# Altium footprint library dip.PcbLib: 12 footprints
Each footprint in its own frame and in the unit in brackets; x right, y up, seen from the top. Pads: shape width x height; smd on the part's side, far side on the other; paste and mask are expansions set on the pad; w line width, h text height; cw(c..) or ccw(c..) is an arc to the next point about the centre after c.
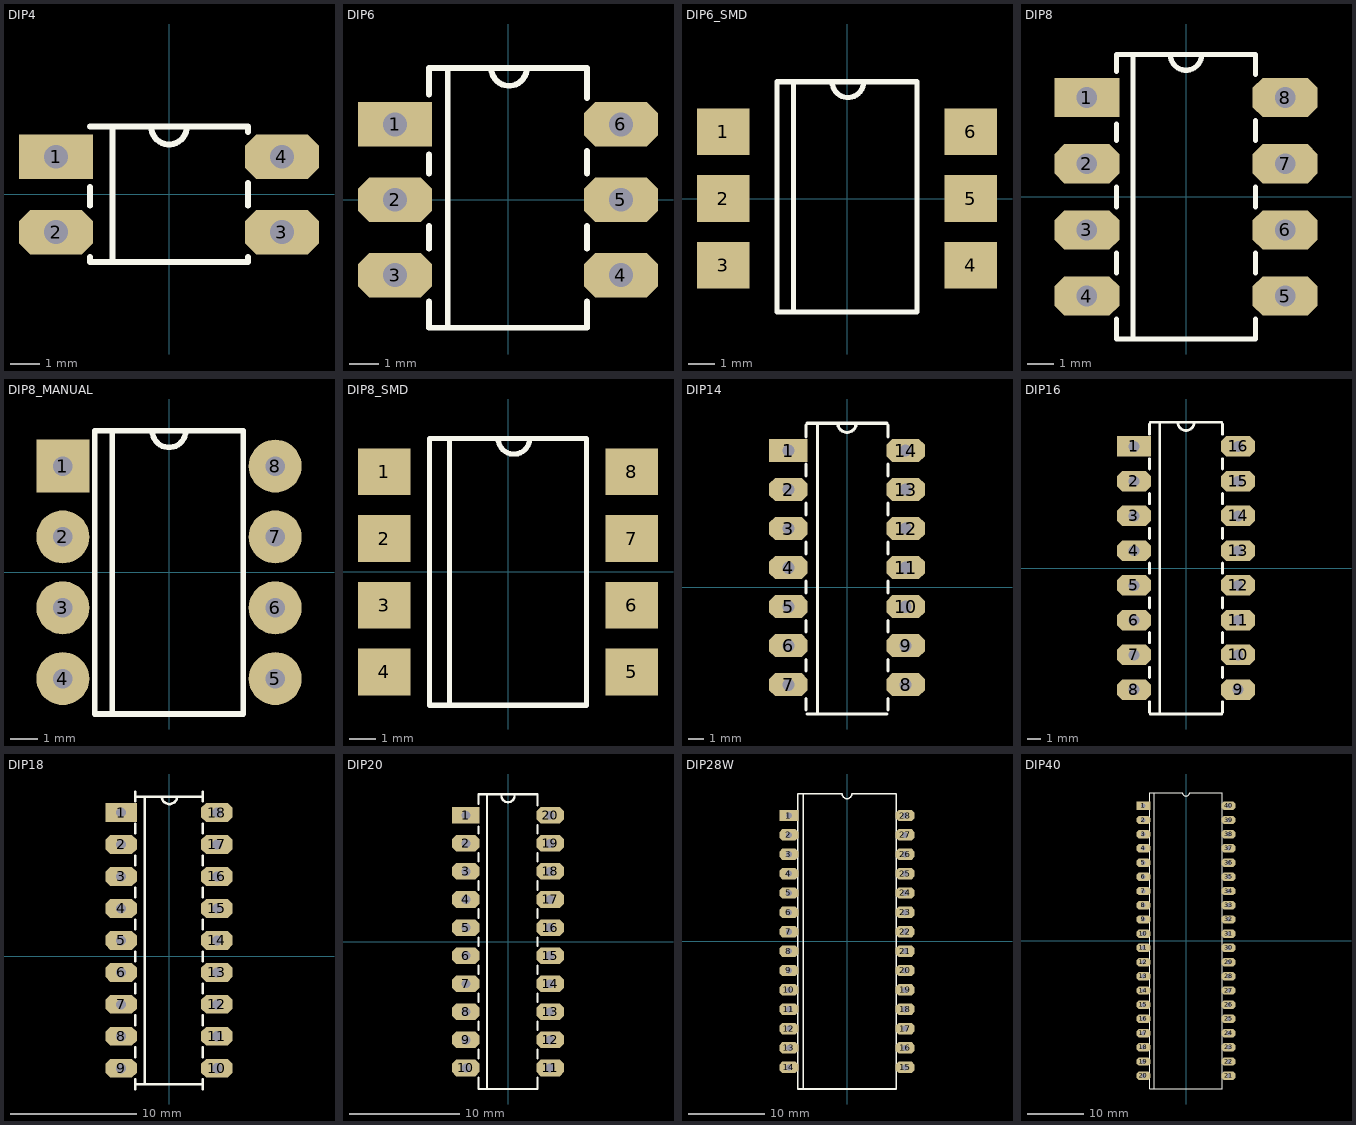
[diagram p0: the footprints below, top view; thin cyan lines are the x and y axes]

## DIP4 [mm]
height 4.5
pads (4):
  rect 2.5x1.5 hole 0.8: 1(-3.81,1.27)
  oct 2.5x1.5 hole 0.8: 2(-3.81,-1.27) 3(3.81,-1.27) 4(3.81,1.27)
Top Overlay:
  lines w0.2: -2.667,-2.108 -2.667,-2.286 2.667,-2.286 2.667,-2.108 ; -2.667,-0.381 -2.667,0.254 ; -2.667,2.286 2.667,2.286 2.667,2.108 ; -1.91,-2.286 -1.91,2.286 ; -0.6,2.286 ccw(c0,2.286) 0.6,2.286 ; 2.667,-0.381 2.667,0.381

## DIP6 [mm]
height 4.5
pads (6):
  rect 2.5x1.5 hole 0.8: 1(-3.81,2.54)
  oct 2.5x1.5 hole 0.8: 2(-3.81,0) 3(-3.81,-2.54) 4(3.81,-2.54) 5(3.81,0) 6(3.81,2.54)
Top Overlay:
  lines w0.2: -2.667,-3.429 -2.667,-4.318 2.667,-4.318 2.667,-3.429 ; -2.667,-1.651 -2.667,-0.889 ; -2.667,0.889 -2.667,1.524 ; -2.667,3.556 -2.667,4.445 2.667,4.445 2.667,3.429 ; -2.032,-4.318 -2.032,4.445 ; -0.565,4.445 ccw(c0.035,4.445) 0.635,4.445 ; 2.667,-1.651 2.667,-0.889 ; 2.667,0.889 2.667,1.651
3D body: height 5.3, standoff -2.49, extent -3.94,-4.355 3.94,4.445

## DIP6_SMD [mm]
height 4.5
pads (6):
  rect 2x1.78 smd: 1(-4.708,2.54) 2(-4.708,0) 3(-4.708,-2.54) 4(4.708,-2.54) 5(4.708,0) 6(4.708,2.54)
Top Overlay:
  lines w0.2: -2.032,-4.318 -2.032,4.445 ; -0.565,4.445 ccw(c0.035,4.445) 0.635,4.445 ; -2.667,-4.318 -2.667,4.445 2.667,4.445 2.667,-4.318 -2.667,-4.318
3D body: height 5.03, standoff -0.09, extent -4.952,-4.445 4.952,4.445

## DIP8 [mm]
height 4.5
pads (8):
  rect 2.5x1.5 hole 0.8: 1(-3.81,3.81)
  oct 2.5x1.5 hole 0.8: 2(-3.81,1.27) 3(-3.81,-1.27) 4(-3.81,-3.81) 5(3.81,-3.81) 6(3.81,-1.27) 7(3.81,1.27) 8(3.81,3.81)
Top Overlay:
  lines w0.2: -2.667,-4.699 -2.667,-5.461 2.667,-5.461 2.667,-4.699 ; -2.667,-2.921 -2.667,-2.159 ; -2.667,-0.381 -2.667,0.381 ; -2.667,2.159 -2.667,2.794 ; -2.667,4.826 -2.667,5.461 2.667,5.461 2.667,4.699 ; -2.032,-5.461 -2.032,5.461 ; -0.6,5.461 ccw(c0,5.461) 0.6,5.461 ; 2.667,-2.921 2.667,-2.159 ; 2.667,-0.381 2.667,0.381 ; 2.667,2.159 2.667,2.921
3D body: height 5.28, standoff -2.29, extent -3.935,-5.46 3.935,5.46

## DIP8_MANUAL [mm]
pads (8):
  rect 1.9x1.9 hole 0.7: 1(-3.81,3.81)
  round 1.9 hole 0.7: 2(-3.81,1.27) 3(-3.81,-1.27) 4(-3.81,-3.81) 5(3.81,-3.81) 6(3.81,-1.27) 7(3.81,1.27) 8(3.81,3.81)
Top Overlay:
  lines w0.2: -2.032,-5.08 -2.032,5.08 ; -0.6,5.08 ccw(c0,5.08) 0.6,5.08 ; -2.667,-5.08 -2.667,5.08 2.667,5.08 2.667,-5.08 -2.667,-5.08
3D body: height 5.28, standoff -2.29, extent -3.935,-5.46 3.935,5.46

## DIP8_SMD [mm]
pads (8):
  rect 2x1.78 smd: 1(-4.708,3.81) 2(-4.708,1.27) 3(-4.708,-1.27) 4(-4.708,-3.81) 5(4.708,-3.81) 6(4.708,-1.27) 7(4.708,1.27) 8(4.708,3.81)
Top Overlay:
  lines w0.2: -2.222,-5.08 -2.222,5.08 ; -0.374,5.08 ccw(c0.226,5.08) 0.826,5.08 ; -2.984,-5.08 -2.984,5.08 2.984,5.08 2.984,-5.08 -2.984,-5.08
3D body: height 5.08, standoff 0, extent -5.15,-4.955 5.15,4.955

## DIP14 [mm]
pads (14):
  rect 2.5x1.5 hole 0.8: 1(-3.81,8.89)
  oct 2.5x1.5 hole 0.8: 2(-3.81,6.35) 3(-3.81,3.81) 4(-3.81,1.27) 5(-3.81,-1.27) 6(-3.81,-3.81) 7(-3.81,-6.35) 8(3.81,-6.35) 9(3.81,-3.81) 10(3.81,-1.27) 11(3.81,1.27) 12(3.81,3.81) 13(3.81,6.35) 14(3.81,8.89)
Top Overlay:
  lines w0.2: -2.667,-8.001 -2.667,-7.239 ; -2.667,-5.461 -2.667,-4.699 ; -2.667,-2.921 -2.667,-2.159 ; -2.667,-0.381 -2.667,0.381 ; -2.667,2.159 -2.667,2.921 ; -2.667,4.699 -2.667,5.461 ; -2.667,7.239 -2.667,8.001 ; -2.667,9.779 -2.667,10.541 ; -2.61,-8.255 2.61,-8.255 ; -2.61,10.665 2.61,10.665 ; -1.91,-8.255 -1.91,10.665 ; -0.6,10.665 ccw(c0,10.665) 0.6,10.665 ; 2.667,-8.001 2.667,-7.239 ; 2.667,-5.461 2.667,-4.699 ; 2.667,-2.921 2.667,-2.159 ; 2.667,-0.381 2.667,0.381 ; 2.667,2.159 2.667,2.921 ; 2.667,4.699 2.667,5.461 ; 2.667,7.239 2.667,8.001 ; 2.667,9.779 2.667,10.541
3D body: height 5.08, standoff -2.49, extent -3.81,-8.48 4.06,11.02

## DIP16 [mm]
pads (16):
  rect 2.5x1.5 hole 0.8: 1(-3.81,8.89)
  oct 2.5x1.5 hole 0.8: 2(-3.81,6.35) 3(-3.81,3.81) 4(-3.81,1.27) 5(-3.81,-1.27) 6(-3.81,-3.81) 7(-3.81,-6.35) 8(-3.81,-8.89) 9(3.81,-8.89) 10(3.81,-6.35) 11(3.81,-3.81) 12(3.81,-1.27) 13(3.81,1.27) 14(3.81,3.81) 15(3.81,6.35) 16(3.81,8.89)
Top Overlay:
  lines w0.2: -2.667,-10.541 -2.667,-9.779 ; -2.667,-8.001 -2.667,-7.239 ; -2.667,-5.461 -2.667,-4.699 ; -2.667,-2.921 -2.667,-2.159 ; -2.667,-0.381 -2.667,0.381 ; -2.667,2.159 -2.667,2.921 ; -2.667,4.699 -2.667,5.461 ; -2.667,7.239 -2.667,8.001 ; -2.667,9.779 -2.667,10.541 ; -2.61,-10.665 2.61,-10.665 ; -2.61,10.665 2.61,10.665 ; -1.91,-10.665 -1.91,10.665 ; -0.6,10.665 ccw(c0,10.665) 0.6,10.665 ; 2.667,-10.541 2.667,-9.779 ; 2.667,-8.001 2.667,-7.239 ; 2.667,-5.461 2.667,-4.699 ; 2.667,-2.921 2.667,-2.159 ; 2.667,-0.381 2.667,0.381 ; 2.667,2.159 2.667,2.921 ; 2.667,4.699 2.667,5.461 ; 2.667,7.239 2.667,8.001 ; 2.667,9.779 2.667,10.541
3D body: height 5.28, standoff -2.29, extent -3.937,-10.033 3.933,9.967

## DIP18 [mm]
pads (18):
  rect 2.5x1.5 hole 0.8: 1(-3.81,11.43)
  oct 2.5x1.5 hole 0.8: 2(-3.81,8.89) 3(-3.81,6.35) 4(-3.81,3.81) 5(-3.81,1.27) 6(-3.81,-1.27) 7(-3.81,-3.81) 8(-3.81,-6.35) 9(-3.81,-8.89) 10(3.81,-8.89) 11(3.81,-6.35) 12(3.81,-3.81) 13(3.81,-1.27) 14(3.81,1.27) 15(3.81,3.81) 16(3.81,6.35) 17(3.81,8.89) 18(3.81,11.43)
Top Overlay:
  lines w0.2: -2.667,-10.541 -2.667,-9.779 ; -2.667,-8.001 -2.667,-7.239 ; -2.667,-5.461 -2.667,-4.699 ; -2.667,-2.921 -2.667,-2.159 ; -2.667,-0.381 -2.667,0.381 ; -2.667,2.159 -2.667,2.921 ; -2.667,4.699 -2.667,5.461 ; -2.667,7.239 -2.667,8.001 ; -2.667,9.779 -2.667,10.541 ; -2.667,12.319 -2.667,13.081 ; -2.61,-10.16 2.61,-10.16 ; -2.61,12.7 2.61,12.7 ; -1.91,-10.16 -1.91,12.7 ; -0.565,12.7 ccw(c0.035,12.7) 0.635,12.7 ; 2.667,-10.541 2.667,-9.779 ; 2.667,-8.001 2.667,-7.239 ; 2.667,-5.461 2.667,-4.699 ; 2.667,-2.921 2.667,-2.159 ; 2.667,-0.381 2.667,0.381 ; 2.667,2.159 2.667,2.921 ; 2.667,4.699 2.667,5.461 ; 2.667,7.239 2.667,8.001 ; 2.667,9.779 2.667,10.541 ; 2.667,12.319 2.667,13.081
3D body: height 5.08, standoff -2.49, extent -3.81,-10.225 4.06,12.765

## DIP20 [mm]
pads (20):
  rect 2.5x1.5 hole 0.8: 1(-3.81,11.43)
  oct 2.5x1.5 hole 0.8: 2(-3.81,8.89) 3(-3.81,6.35) 4(-3.81,3.81) 5(-3.81,1.27) 6(-3.81,-1.27) 7(-3.81,-3.81) 8(-3.81,-6.35) 9(-3.81,-8.89) 10(-3.81,-11.43) 11(3.81,-11.43) 12(3.81,-8.89) 13(3.81,-6.35) 14(3.81,-3.81) 15(3.81,-1.27) 16(3.81,1.27) 17(3.81,3.81) 18(3.81,6.35) 19(3.81,8.89) 20(3.81,11.43)
Top Overlay:
  lines w0.2: -2.667,-12.319 -2.667,-13.332 2.667,-13.332 2.667,-12.319 ; -2.667,-10.541 -2.667,-9.779 ; -2.667,-8.001 -2.667,-7.239 ; -2.667,-5.461 -2.667,-4.699 ; -2.667,-2.921 -2.667,-2.159 ; -2.667,-0.381 -2.667,0.381 ; -2.667,2.159 -2.667,2.921 ; -2.667,4.699 -2.667,5.461 ; -2.667,7.239 -2.667,8.001 ; -2.667,9.779 -2.667,10.414 ; -2.667,12.446 -2.667,13.332 2.667,13.332 2.667,12.319 ; -1.91,-13.208 -1.91,13.205 ; -0.6,13.205 ccw(c0,13.205) 0.6,13.205 ; 2.667,-10.541 2.667,-9.779 ; 2.667,-8.001 2.667,-7.239 ; 2.667,-5.461 2.667,-4.699 ; 2.667,-2.921 2.667,-2.159 ; 2.667,-0.381 2.667,0.381 ; 2.667,2.159 2.667,2.921 ; 2.667,4.699 2.667,5.461 ; 2.667,7.239 2.667,8.001 ; 2.667,9.779 2.667,10.541
3D body: height 5.07, standoff -3.31, extent -3.91,-13.27 3.91,13.27

## DIP28W [mm]
pads (28):
  rect 2.5x1.5 hole 0.8: 1(-7.62,16.51)
  oct 2.5x1.5 hole 0.8: 2(-7.62,13.97) 3(-7.62,11.43) 4(-7.62,8.89) 5(-7.62,6.35) 6(-7.62,3.81) 7(-7.62,1.27) 8(-7.62,-1.27) 9(-7.62,-3.81) 10(-7.62,-6.35) 11(-7.62,-8.89) 12(-7.62,-11.43) 13(-7.62,-13.97) 14(-7.62,-16.51) 15(7.62,-16.51) 16(7.62,-13.97) 17(7.62,-11.43) 18(7.62,-8.89) 19(7.62,-6.35) 20(7.62,-3.81) 21(7.62,-1.27) 22(7.62,1.27) 23(7.62,3.81) 24(7.62,6.35) 25(7.62,8.89) 26(7.62,11.43) 27(7.62,13.97) 28(7.62,16.51)
Top Overlay:
  lines w0.2: -5.715,-19.35 -5.715,19.35 ; -6.45,-19.35 6.45,-19.35 6.45,19.35 0.635,19.35 cw(c0,19.35) -0.635,19.35 -6.45,19.35 -6.45,-19.35
3D body: height 5.9, standoff -2.38, extent -7.745,-18.65 7.745,18.65

## DIP40 [mm]
pads (40):
  rect 2.5x1.5 hole 0.8: 1(-7.62,24.13)
  oct 2.5x1.5 hole 0.8: 2(-7.62,21.59) 3(-7.62,19.05) 4(-7.62,16.51) 5(-7.62,13.97) 6(-7.62,11.43) 7(-7.62,8.89) 8(-7.62,6.35) 9(-7.62,3.81) 10(-7.62,1.27) 11(-7.62,-1.27) 12(-7.62,-3.81) 13(-7.62,-6.35) 14(-7.62,-8.89) 15(-7.62,-11.43) 16(-7.62,-13.97) 17(-7.62,-16.51) 18(-7.62,-19.05) 19(-7.62,-21.59) 20(-7.62,-24.13) 21(7.62,-24.13) 22(7.62,-21.59) 23(7.62,-19.05) 24(7.62,-16.51) 25(7.62,-13.97) 26(7.62,-11.43) 27(7.62,-8.89) 28(7.62,-6.35) 29(7.62,-3.81) 30(7.62,-1.27) 31(7.62,1.27) 32(7.62,3.81) 33(7.62,6.35) 34(7.62,8.89) 35(7.62,11.43) 36(7.62,13.97) 37(7.62,16.51) 38(7.62,19.05) 39(7.62,21.59) 40(7.62,24.13)
Top Overlay:
  lines w0.2: -5.688,-26.5 -5.688,26.5 ; -6.45,-26.5 -6.45,26.5 -0.635,26.5 ccw(c0,26.5) 0.635,26.5 6.45,26.5 6.45,-26.5 -6.45,-26.5
3D body: height 5.9, standoff -2.38, extent -7.745,-26.225 7.745,26.225